# Altium schematic symbol library B6_0.7-1.6_BN3307.Schlib: 1 symbol
Pins are listed as number, name and electrical type; pins without a type are passive.

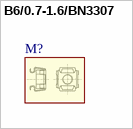
[diagram p0: symbol B6/0.7-1.6/BN3307]

## B6/0.7-1.6/BN3307
designator M?  (value not drawn)  (mechanical)